# EAGLE library part NEO-7 (library Dal_V2)
ublox NEO-7 N, NEO-7P Not exactly same as NEO-6 series.
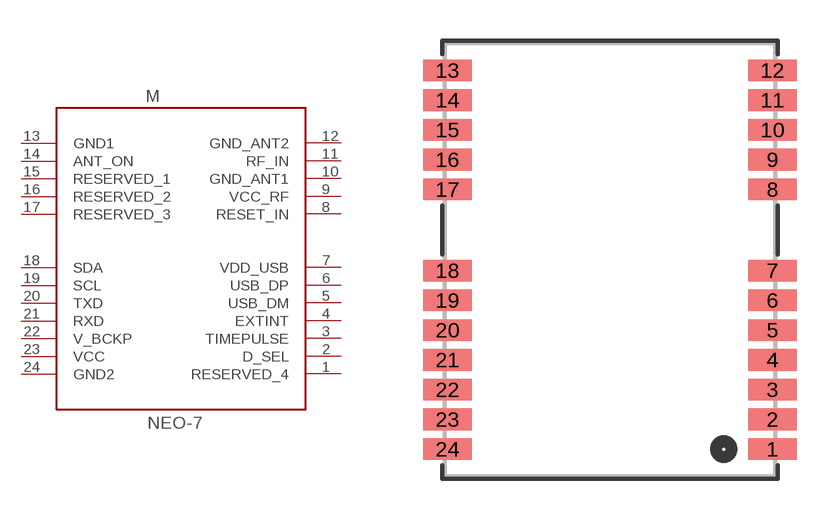
[diagram p2: symbol with the pads of NEO-7; footprint NEO-7]

Designator prefix M

## NEO-7  [NEO-7]
1  RESERVED_4  pas
2  D_SEL  in
3  TIMEPULSE  out
4  EXTINT  in
5  USB_DM
6  USB_DP
7  VDD_USB  in
8  RESET_IN  in
9  VCC_RF  pas
10  GND_ANT1  in
11  RF_IN  pas
12  GND_ANT2  in
13  GND1  in
14  ANT_ON  out
15  RESERVED_1  pas
16  RESERVED_2  pas
17  RESERVED_3  pas
18  SDA
19  SCL
20  TXD  out
21  RXD  in
22  V_BCKP  in
23  VCC  in
24  GND2  in

## Footprint NEO-7 (pad centres in mm)
ublox NEO Footprint for NEO modules -6 and -7. Taken from ublox hardware integration document.
smd 1.8 x 0.8: 1 6,-7; 2 6,-5.9; 3 6,-4.8; 4 6,-3.7; 5 6,-2.6; 6 6,-1.5; 7 6,-0.4; 8 6,2.6; 9 6,3.7; 10 6,4.8; 11 6,5.9; 12 6,7; 13 -6,7; 14 -6,5.9; 15 -6,4.8; 16 -6,3.7; 17 -6,2.6; 18 -6,-0.4; 19 -6,-1.5; 20 -6,-2.6; 21 -6,-3.7; 22 -6,-4.8; 23 -6,-5.9; 24 -6,-7